# Altium schematic symbol library Battery supply.SchLib: 7 symbols
Pins are listed as number, name and electrical type; pins without a type are passive.

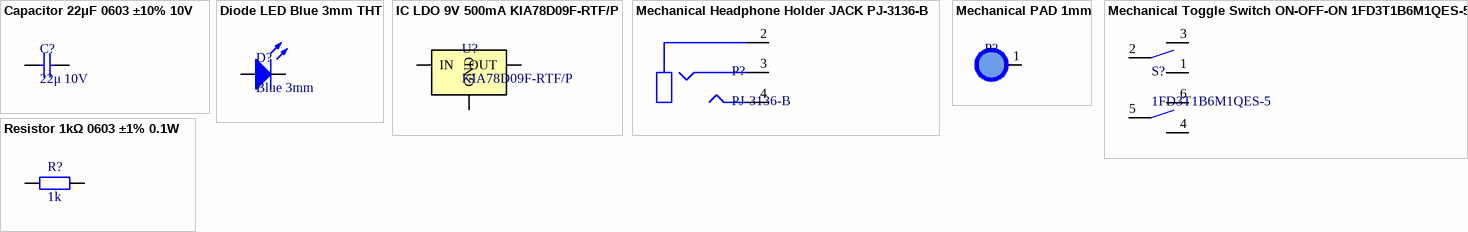
[diagram p0: symbols Capacitor 22μF 0603 ±10% 10V to Resistor 1kΩ 0603 ±1% 0.1W]

## Capacitor 22μF 0603 ±10% 10V
designator C?, comment 22μ 10V
X5R ±20% 10V 22uF 0603 Multilayer Ceramic Capacitors MLCC - SMD/SMT ROHS; Mfr. Part #: 0603X226M100NT; Type: SMD; LCSC Part #: C60077; Package: 0603; ComponentLink1Description: Datasheet; ComponentLink1URL: https://datasheet.lcsc.com/lcsc/1811151152_FH-Guangdong-Fenghua-Advanced-Tech-0603X226M100NT_C60077.pdf
footprint Capacitor 0603
pins: 1, 2

## Diode LED Blue 3mm THT
designator D?, comment Blue 3mm
Blue 460nm~470nm 2.7V~3.6V Through Hole Light Emitting Diodes (LED) ROHS; Mfr. Part #: TJ-L3FYTGCBMCGSFLC6B-A5; Type: THT; LCSC Part #: C330760; Package: Through Hole; ComponentLink1Description: Datasheet; ComponentLink1URL: https://datasheet.lcsc.com/lcsc/2006301911_TOGIALED-TJ-L3FYTGCBMCGSFLC6B-A5_C330760.pdf
footprint LED 3MM BLUE
pins: 1, 2

## IC LDO 9V 500mA KIA78D09F-RTF/P
designator U?, comment KIA78D09F-RTF/P
25V 500mV @ 500mA Fixed 9V TO-252-2(DPAK) Linear Voltage Regulators (LDO) ROHS; Mfr. Part #: KIA78D09F-RTF/P; LCSC Part #: C69764; Package: TO-252-2(DPAK); ComponentLink1Description: Datasheet; ComponentLink1URL: https://datasheet.lcsc.com/lcsc/1810121816_KEC-Semicon-KIA78D09F-RTF-P_C69764.pdf; Type: SMD
footprint KIA78D09F-RTF/P
pins: 1 IN, 2 GND, 3 OUT

## Mechanical Headphone Holder JACK PJ-3136-B
designator P?, comment PJ-3136-B
3.5mm Plug-in headphone holder Horizontal 6 Female DIP Audio & Video Connectors ROHS /; Mfr. Part #: PJ-3136-B; LCSC Part #: C381131; Package: DIP; ComponentLink1Description: Datasheet; ComponentLink1URL: https://datasheet.lcsc.com/lcsc/1912111437_XKB-Connectivity-PJ-3136-B_C381131.pdf; Type: THT
footprint PJ-3136-B
pins: 2, 3, 4

## Mechanical PAD 1mm
designator P?, comment PAd  (value not drawn)
Pad 1mm
footprint PAD
pins: 1

## Mechanical Toggle Switch ON-OFF-ON 1FD3T1B6M1QES-5
designator S?, comment 1FD3T1B6M1QES-5
H=10.5mm Toggle Switches ROHS; Mfr. Part #: 1FD3T1B6M1QES-5; LCSC Part #: C908278; Package: H=10.5mm; ComponentLink1Description: Datasheet; ComponentLink1URL: https://datasheet.lcsc.com/lcsc/2011111736_Dailywell-1FD3T1B6M1QES-5_C908278.pdf; Type: THT
footprint 1FD3T1B6M1QES-5
pins: 1, 2, 3, 4, 5, 6

## Resistor 1kΩ 0603 ±1% 0.1W
designator R?, comment 1k
±1% ±100ppm/℃ 1kΩ 0.1W 0603 Chip Resistor - Surface Mount ROHS; Mfr. Part #: RC0603FR-071KL; LCSC Part #: C22548; Package: 0603; ComponentLink1Description: Datasheet; ComponentLink1URL: https://datasheet.lcsc.com/lcsc/1810182020_YAGEO-RC0603FR-071KL_C22548.pdf; Type: SMD
footprint Resistor 0603
pins: 1, 2